# EAGLE library part 741-107 (library con-wago_741)
Serie 741, Durchführungsklemmenleiste 2 Lötstifte/Pol / Series 741, Feedthrough terminal strip 2 solder pins/pole Polzahl / Pole No.: 7 Rastermaß / Pitch: 5 mm Bemessungsspannung / Rated Voltage: 320 V Nennstrom / Nominal Current: 16 A Leiterquerschnitt / Conductor Size: 0.08 - 2.5 mm² Anschlusstechnik / Connection Technology: CAGE CLAMP® Lötstiftlänge: / Solder Pin Length: 4 mm Leitereinführung (zur Platine) / Conductor entry angle (to PCB): 0 ° Farbe / Color: grau / gray Stand: 01.01.2012. Die jeweils aktuellen Daten zu diesem Artikel finden Sie in unserem Produktkatalog, den Sie unter www.wago.com einsehen können. As of: 01/01/2012. Please find the newest data for this article in our product catalogue, which can be viewed under www.wago.com.
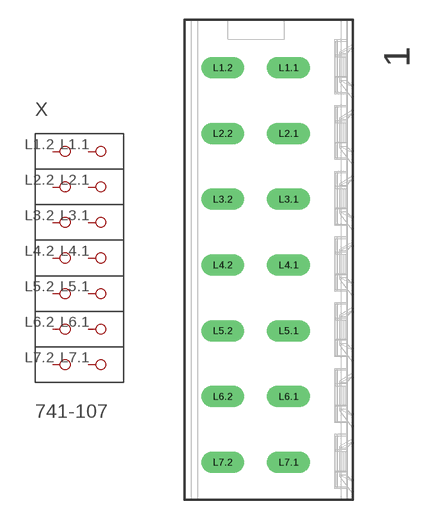
[diagram p4: symbol with the pads of P-741-107; footprint P-741-107]

Designator prefix X

## 741-107  [P-741-107]
L1.1  P1.1
L1.2  P1.2
L2.1  P2.1
L2.2  P2.2
L3.1  P3.1
L3.2  P3.2
L4.1  P4.1
L4.2  P4.2
L5.1  P5.1
L5.2  P5.2
L6.1  P6.1
L6.2  P6.2
L7.1  P7.1
L7.2  P7.2

## Footprint P-741-107 (pad centres in mm)
drill 1.1 long: L1.1 1.5,14.6; L1.2 -3.5,14.6; L2.1 1.5,9.6; L2.2 -3.5,9.6; L3.1 1.5,4.6; L3.2 -3.5,4.6; L4.1 1.5,-0.4; L4.2 -3.5,-0.4; L5.1 1.5,-5.4; L5.2 -3.5,-5.4; L6.1 1.5,-10.4; L6.2 -3.5,-10.4; L7.1 1.5,-15.4; L7.2 -3.5,-15.4